# Altium footprint library Diode.PcbLib: 17 footprints (part 2 of 2)
Each footprint in its own frame and in the unit in brackets; x right, y up, seen from the top. Pads: shape width x height; smd on the part's side, far side on the other; paste and mask are expansions set on the pad; w line width, h text height; cw(c..) or ccw(c..) is an arc to the next point about the centre after c.
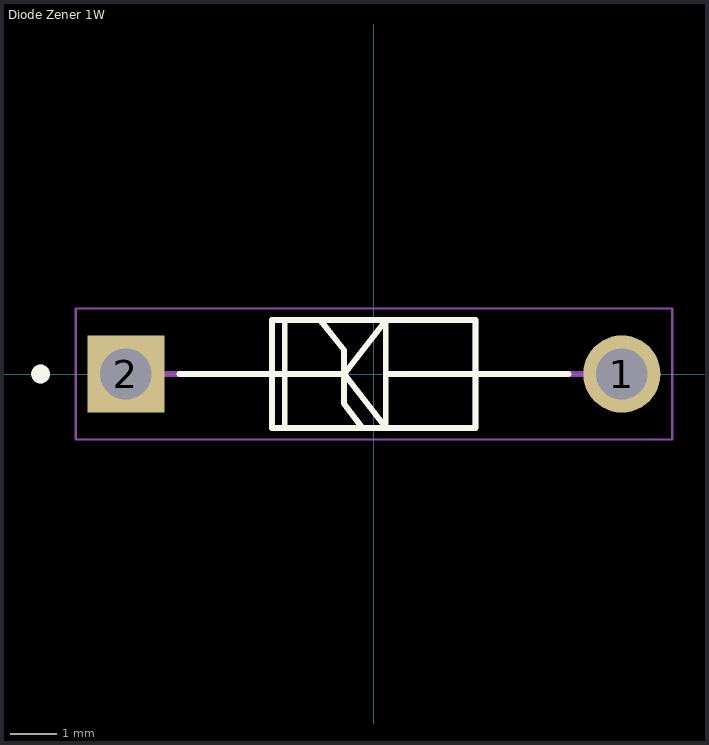
[diagram p1: the footprint, top view; thin cyan lines are the x and y axes]

## Diode Zener 1W [mm]
pads (2):
  round 1.65 hole 1.1: 1(5.3,0)
  rect 1.65x1.65 / inner round 1.65 / far side rect 1.65x1.65 hole 1.1: 2(-5.3,0)
Top Overlay:
  circle w0.2: c-7.125,0 r0.1
  lines w0.127: -4.155,0 -2.175,0 ; -1.905,-1.143 -1.905,1.143 ; -1.143,1.143 -0.635,0.508 -0.635,-0.635 -0.254,-1.143 ; 4.155,0 2.175,0 ; -2.175,0 -0.635,0 ; -2.175,0 -2.175,-1.15 2.175,-1.15 2.175,0 ; -2.175,0 -2.175,1.15 2.175,1.15 2.175,0 ; -0.635,0 0.254,-1.143 0.254,1.143 ; -0.635,0 0.254,1.143 ; 0.254,1.143 0.254,0 2.175,0
Mechanical 13:
  circle w0.2: c-7.125,0 r0.1
  lines w0.127: -5.3,0 -2.175,0 ; 5.3,0 2.175,0 ; -2.175,0 -2.175,-1.15 2.175,-1.15 2.175,0 ; -2.175,0 -2.175,1.15 2.175,1.15 2.175,0
Mechanical 15:
  lines w0.05: -6.375,-1.4 6.375,-1.4 6.375,1.4 -6.375,1.4 -6.375,-1.4
3D body "step_temp.STEP": height 2.8, standoff -15.3, extent -5.545,-1.4 5.545,1.4